# EAGLE library part MSP430F2132IPW (library Common-Parts-Library-Eagle)
16-bit Ultra-Low-Power Microcontroller, 8kB Flash, 512B RAM, 10 bit ADC, 1 USCI 28-TSSOP -40 to 85
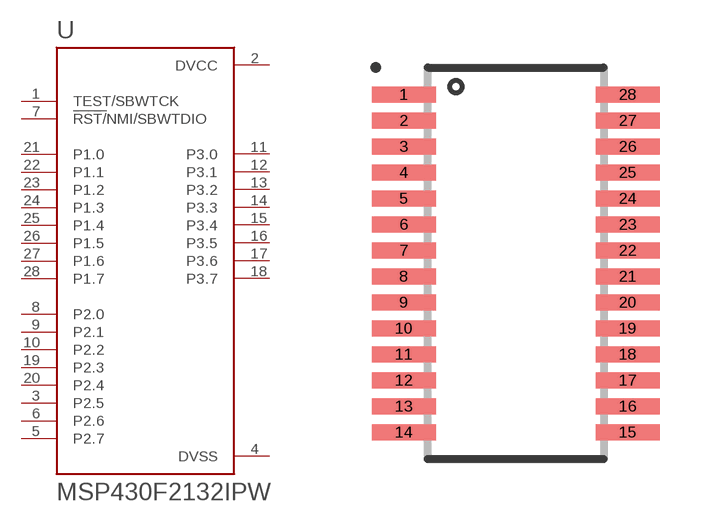
[diagram p22: symbol with the pads of SOP65P640X120-28N; footprint SOP65P640X120-28N]

Designator prefix U

## MSP430F2132IPW (MANUFACTURER: Texas Instruments)  [SOP65P640X120-28N]
1  TEST/SBWTCK  in
2  DVCC  pwr
3  P2.5
4  DVSS  pwr
5  P2.7
6  P2.6
7  !RST/!NMI/SBWTDIO  in
8  P2.0
9  P2.1
10  P2.2
11  P3.0
12  P3.1
13  P3.2
14  P3.3
15  P3.4
16  P3.5
17  P3.6
18  P3.7
19  P2.3
20  P2.4
21  P1.0
22  P1.1
23  P1.2
24  P1.3
25  P1.4
26  P1.5
27  P1.6
28  P1.7

## Footprint SOP65P640X120-28N (pad centres in mm)
smd 1.6 x 0.4: 1 -2.8,4.225; 2 -2.8,3.575; 3 -2.8,2.925; 4 -2.8,2.275; 5 -2.8,1.625; 6 -2.8,0.975; 7 -2.8,0.325; 8 -2.8,-0.325; 9 -2.8,-0.975; 10 -2.8,-1.625; 11 -2.8,-2.275; 12 -2.8,-2.925; 13 -2.8,-3.575; 14 -2.8,-4.225; 15 2.8,-4.225; 16 2.8,-3.575; 17 2.8,-2.925; 18 2.8,-2.275; 19 2.8,-1.625; 20 2.8,-0.975; 21 2.8,-0.325; 22 2.8,0.325; 23 2.8,0.975; 24 2.8,1.625; 25 2.8,2.275; 26 2.8,2.925; 27 2.8,3.575; 28 2.8,4.225